# Altium schematic symbol library Transformer.SchLib: 1 symbol
Pins are listed as number, name and electrical type; pins without a type are passive.

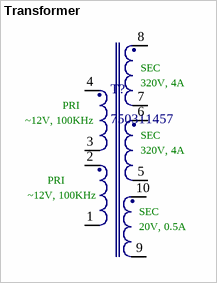
[diagram p0: symbol Transformer]

## Transformer
designator T?, comment 750311457
Transformer; Manufacturer: Wuerth Elektronik; Ui: 36V; ComponentLink1Description: Manufacturer URL; ComponentLink2Description: Datasheet; ComponentLink1URL: http://www.we-online.com; PartNumber: 750311457; PackageReference: EP13; ComponentLink2URL: http://katalog.we-online.de/pbs/datasheet/750311457.pdf
footprint Transformer
footprint EE85_Ferrite_Core
pins: 1, 2, 3, 4, 5, 6, 7, 8, 9, 10
text: SEC; 320V, 4A; PRI; ~12V, 100KHz; 20V, 0.5A